# Altium footprint library IPC-7352 DPAK_N.PcbLib: 2 footprints
Each footprint in its own frame and in the unit in brackets; x right, y up, seen from the top. Pads: shape width x height; smd on the part's side, far side on the other; paste and mask are expansions set on the pad; w line width, h text height; cw(c..) or ccw(c..) is an arc to the next point about the centre after c.
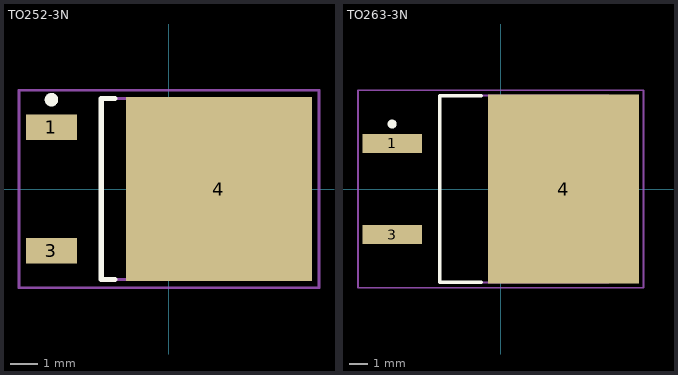
[diagram p0: the footprints below, top view; thin cyan lines are the x and y axes]

## TO252-3N [mm] "D-PAK, 4-Leads, Body 6.1x6.5mm, Pitch 2.28mm, Lead Span 9.7mm, IPC Medium Density"
height 2.38
pads (3):
  rect 1.9x0.95 smd: 1(-4.35,2.28) 3(-4.35,-2.28)
  rect 6.9x6.8 smd: 4(1.85,0)
Top Overlay:
  circle w0.25: c-4.35,3.305 r0.125
  lines w0.2: -2,-3.35 -2.5,-3.35 -2.5,3.35 -2,3.35
Mechanical 13:
  lines w0.1: -2.5,-3.35 3.7,-3.35 3.7,3.35 -2.5,3.35 -2.5,-3.35
Mechanical 15:
  lines w0.1: -0.5,0 0.5,0 ; 0,-0.5 0,0.5 ; -5.55,-3.65 5.55,-3.65 5.55,3.65 -5.55,3.65 -5.55,-3.65
3D body: height 2.38, standoff 0, extent -2.5,-3.35 3.7,3.35

## TO263-3N [mm] "D2-PAK, 4-Leads, Body 9.4x10.2mm, Pitch 2.54mm, Lead Span 14.3mm, IPC Medium Density"
height 4.65
pads (3):
  rect 3.3x1.05 smd: 1(-6.05,2.54) 3(-6.05,-2.54)
  rect 8.4x10.5 smd: 4(3.5,0)
Top Overlay:
  circle w0.25: c-6.05,3.615 r0.125
  lines w0.2: -1.1,-5.2 -3.4,-5.2 -3.4,5.2 -1.1,5.2
Mechanical 13:
  lines w0.1: -3.4,-5.2 -3.4,5.2 6,5.2 6,-5.2 -3.4,-5.2
Mechanical 15:
  lines w0.1: -0.5,0 0.5,0 ; 0,-0.5 0,0.5 ; -7.95,-5.5 -7.95,5.5 7.95,5.5 7.95,-5.5 -7.95,-5.5
3D body: height 4.65, standoff 0, extent -3.4,-5.2 6,5.2